# Altium schematic symbol library Lib.SCHLIB: 32 symbols
Pins are listed as number, name and electrical type; pins without a type are passive.

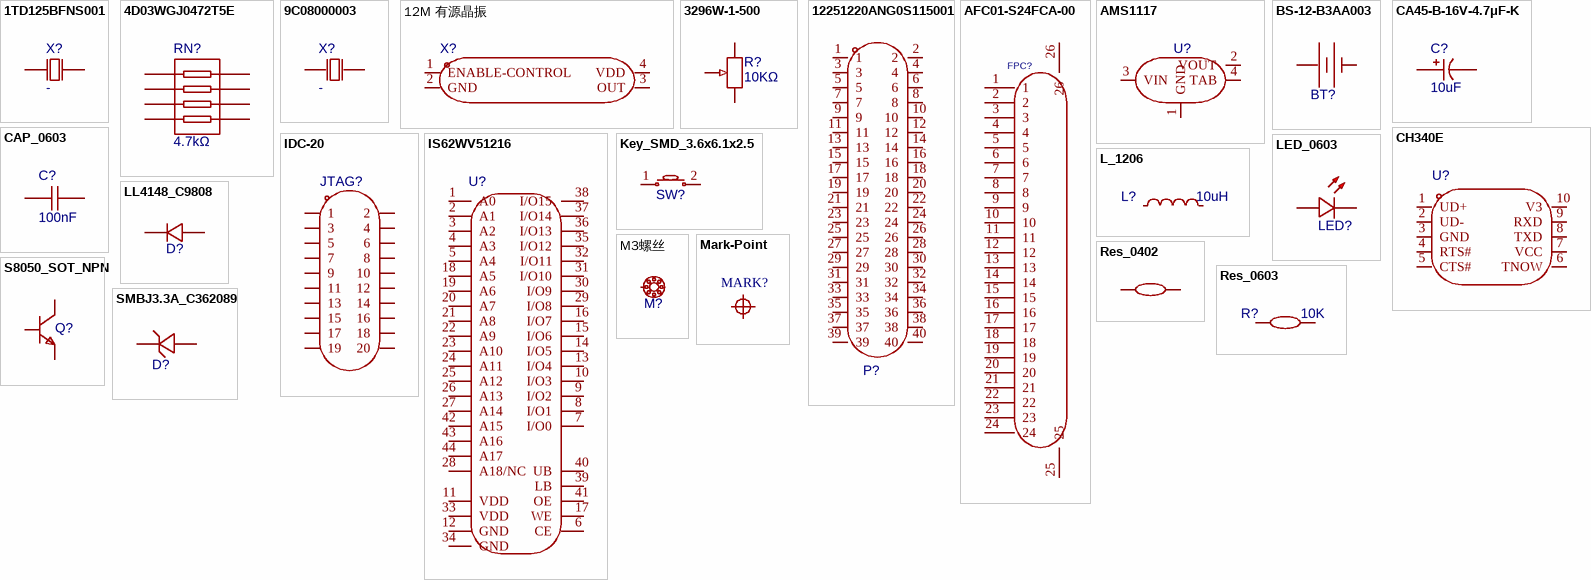
[diagram p0: symbols 1TD125BFNS001 to SMBJ3.3A_C362089]

## 1TD125BFNS001
designator X?  (value not drawn)
频率:-;负载电容:-;; Manufacturer: KDS(大真空); AddInBom: yes; ModelId: bf3d0483db0e46329f34fee1250cddf8; ModelName: OSC-TH_BD2.1-H6.0-P1.0-D0.3; ModelTransform: 291.7317,75.59,0,0,0,0,-141.733,0.003,-137.795; Symbol: 1TD125BFNS001; Device: 1TD125BFNS001; LCSC Part Name: DT-26 32.768K 10PPM 12.5PF 袋装/盒装 袋装/盒装; SupplierPart: C213419; ManufacturerPart: 1TD125BFNS001; Supplier Footprint: DT-26; JLCPCB Part Class: 扩展库; Datasheet: https://atta.szlcsc.com/upload/public/pdf/source/20180530/C213419_C8E01C2F1F46F9420141CAE391D7F4A5.pdf; Supplier: LCSC; ConvertToPcb: yes; FootprintName: OSC-TH_BD2.1-P0.70-D0.3; Crystal Type: -; Load Capacitance: -; Operating Temperature: -; Value: -
footprint OSC-TH_BD2.1-P0.70-D0.3
pins: 1 OSC1, 2 OSC2

## 4D03WGJ0472T5E
designator RN?  value 4.7kΩ  (hidden comment: 4D03WGJ0472T5E)
阻值:4.7kΩ;精度:±5%;单个元件功率:62.5mW;电阻器数:4;温度系数:±200ppm/℃;; Manufacturer: UNI-ROYAL(厚声); AddInBom: yes; ModelId: edf39f9a2dca4b9a94267f442dd4f95a; ModelName: R0603-8P_L3.2-W1.6-H0.6; ModelTransform: 125.984,62.992,0,0,0,0,0,0,0; Tolerance: ±5%; Power(Watts): 62.5mW; Number of Resistors: 4; Symbol: 4D03WGJ0472T5E; Device: 4D03WGJ0472T5E; Supplier: LCSC; Manufacturer Part: 4D03WGJ0472T5E; Supplier Part: C1980; JLCPCB Part Class: 基础库; LCSC Part Name: 4.7kΩ ±5%; Supplier Footprint: 0603x4; Datasheet: https://atta.szlcsc.com/upload/public/pdf/source/20191224/C474318_2527498AE30E813171187CCD28401A71.pdf; ConvertToPcb: yes; FootprintName: RES-ARRAY-SMD_0603-8P-L3.2-W1.6-BL; Number of Pins: 8; Temperature Coefficient: ±200ppm/℃
footprint RES-ARRAY-SMD_0603-8P-L3.2-W1.6-BL
pins: 1, 2, 3, 4, 5, 6, 7, 8

## 9C08000003
designator X?  (value not drawn)
频率:-;负载电容:-;; Manufacturer: TXC(晶技); Symbol: 9C0803LCSC-DDK2S; AddInBom: yes; ModelId: 6f569b91267b44029b8615eb5c810fba; ModelName: HC-49S_L11.4-W1.8-H3.0-LS12.7; ModelTransform: 499.999,188.976,0,0,0,0,0,0,0; Value: -; Device: 9C08000003; LCSC Part Name: HC-49SMD 8M 20pF 20ppm; SupplierPart: C90937; ManufacturerPart: 9C08000003; Supplier Footprint: HC-49S-SMD; JLCPCB Part Class: Extended Part; Datasheet: https://atta.szlcsc.com/upload/public/pdf/source/20161217/1481939207740.pdf; Supplier: LCSC; ConvertToPcb: yes; FootprintName: HC-49S_L11.4-W4.8; Crystal Type: -; Load Capacitance: -; Operating Temperature: -
footprint HC-49S_L11.4-W4.8
pins: 1 OSC1, 2 OSC2

## 12M 有源晶振
designator X?  (value not drawn)
AddInBom: yes; ModelId: ae22b8d143894765bc8100c37cb6356f; ModelName: OSC-SMD_4P-L3.2-W2.5-H1.0; ModelTransform: 125.984,98.425,0,0,0,0,0,0,0; Symbol: 12M 有源晶振; Device: 12M 有源晶振; LCSC Part Name: 12M 有源晶振; SupplierPart: C9900018362; ManufacturerPart: 12M 有源晶振; Supplier Footprint: SMD3225; JLCPCB Part Class: 扩展库; Datasheet: https://atta.szlcsc.comnull; Supplier: LCSC; ConvertToPcb: yes; FootprintName: OSC-SMD_4P-L3.2-W2.5-BL
footprint OSC-SMD_4P-L3.2-W2.5-BL
pins: 1 ENABLE-CONTROL, 2 GND, 3 OUT, 4 VDD

## 3296W-1-500
designator R?  value 10KΩ  (hidden comment: 3296W-1-500)
阻值:50Ω;精度:±10%;; Manufacturer: BOCHEN(博晨); AddInBom: yes; ModelId: b182808559bb43bda9e7de64b64134cb; ModelName: 3296W; ModelTransform: 374.015,188.976,0,180,0,0,0,0,-137.795; Tolerance: ±10%; Symbol: 3296W-1-500; Device: 3296W-1-500; LCSC Part Name: 50Ω ±10%; ManufacturerPart: 3296W-1-500; Supplier Footprint: 插件; JLCPCB Part Class: Extended Part; Datasheet: https://atta.szlcsc.com/upload/public/pdf/source/20171114/C118908_15106326550411117398.pdf; Supplier: LCSC; ConvertToPcb: yes; FootprintName: RES-ADJ-TH_3P-L9.5-W4.9-P2.50-L_3296W
footprint RES-ADJ-TH_3P-L9.5-W4.9-P2.50-L_3296W
pins: 1, 2, 3

## 12251220ANG0S115001
designator P?
间距:2.54mm;总PIN位数:40;排数:2;插针结构:-;行距:2.54mm;安装类型:直插;圆针/方针:-;额定电流:-;额定电压:-;配合针长度:-;塑高:-;触头材质:黄铜;触头镀层:-;颜色:黑色;; Manufacturer: JILN(锦凌); Symbol: 12251220ANG0S115001; AddInBom: yes; ModelId: 2f697d2f705a4509bdac70452e51b3cc; ModelName: HDR-TH_40P-P2.54-M-LI-2X20P; ModelTransform: 2000,196.9,0,0,0,0,0,0,-118.1; Pitch: 2.54mm; Device: 12251220ANG0S115001; LCSC Part Name: 2.54mm; SupplierPart: C429965; ManufacturerPart: 12251220ANG0S115001; Supplier Footprint: 插件,P=2.54mm; JLCPCB Part Class: Extended Part; Datasheet: https://atta.szlcsc.com/upload/public/pdf/source/20190920/C429965_BC46B4ED575BB92CEF1C6420E537C4AD.pdf; Supplier: LCSC; ConvertToPcb: yes; FootprintName: HDR-TH_40P-P2.54-V-M-R2-C20-S2.54; Number of Pins: 40; Number of Rows: 2; Pin Structure: -; Row Spacing: 2.54mm; Mounting Type: 直插; Circluar Pins/Square Pins: -; Current Rating (Max): -; Voltage Rating (Max): -; Length of Mating Pin: -; Insulation Height: -; Contact Material: 黄铜; Contact Plating: -; Color: 黑色
footprint HDR-TH_40P-P2.54-V-M-R2-C20-S2.54
pins: 1, 2, 3, 4, 5, 6, 7, 8, 9, 10, 11, 12, 13, 14, 15, 16, 17, 18, 19, 20, 21, 22, 23, 24, 25, 26, 27, 28, 29, 30, 31, 32, 33, 34, 35, 36, 37, 38, 39, 40

## AFC01-S24FCA-00
designator FPC?  (value not drawn)
间距:0.5mm;触点数量:24P;锁定特性:翻盖式;安装类型:卧贴;触点类型:下接;; Manufacturer: JS(钜硕电子); AddInBom: yes; ModelId: b219624667974e5eae6427e3a0330768; ModelName: FPC-SMD_P0.50-WS-24P; ModelTransform: 637.794,236.22,0,180,0,0,0.001,57.09,0; Pitch: 0.5mm; Number of Contacts: 24P; Locking Feature: 翻盖式; FFC, FCB Thickness: 0.3mm; Symbol: AFC01-S24FCA-00; Device: AFC01-S24FCA-00; Supplier: LCSC; Supplier Part: C262669; Manufacturer Part: AFC01-S24FCA-00; JLCPCB Part Class: 扩展库; LCSC Part Name: 0.5mm P数:24P 翻盖式 下接; Supplier Footprint: SMD,P=0.5mm; Datasheet: https://atta.szlcsc.com/upload/public/pdf/source/20190816/C413942_2A72D1AC756EAE17EEDF756A339D4500.pdf; ConvertToPcb: yes; FootprintName: FPC-SMD_P0.50-24P_FGS-XJ-H2.0; Mounting Type: 卧贴; Contact Type: 下接; Height Above Board: 2mm
footprint FPC-SMD_P0.50-24P_FGS-XJ-H2.0
pins: 1, 2, 3, 4, 5, 6, 7, 8, 9, 10, 11, 12, 13, 14, 15, 16, 17, 18, 19, 20, 21, 22, 23, 24, 25, 26

## AMS1117
designator U?  (value not drawn)
AddInBom: yes; ModelId: 925194bf9823436183a3e0b978a8d076聨0819f05c4eef4c71ace90d822a990e87; ModelName: SOT-223-4P_L6.5-W3.5-H1.6-LS7.0-P2.30; ModelTransform: 279.84,255.85,68.86,90,0,0,0,0,0; Symbol: AMS1117; Device: AMS1117; ConvertToPcb: yes; FootprintName: SOT_223; Supplier Footprint: SOT_223
footprint SOT_223
pins: 1 GND, 2 VOUT, 3 VIN, 4 TAB

## BS-12-B3AA003
designator BT?  (value not drawn)
连接器类型:电池底座;适用电池规格:CR1220;工作温度范围:-25℃~+85℃;; Manufacturer: MYOUNG(美阳); AddInBom: yes; ModelId: 54ee14fdfc2a4013838c0af10e1f0cfd; ModelName: BAT-SMD_BS-12-B3AA011; ModelTransform: 732.282,586.427,0,0,0,0,-13.041,-1.024,-27.559; Connector Type: 电池底座; Battery Type: CR1220; Symbol: BS-12-B3AA003; Device: BS-12-B3AA003; Supplier: LCSC; Supplier Part: C964723; Manufacturer Part: BS-12-B3AA003; JLCPCB Part Class: 扩展库; LCSC Part Name: 电池底座 适用电池:CR1220; Supplier Footprint: SMD; Datasheet: https://atta.szlcsc.com/upload/public/pdf/source/20201218/C964723_733B638E287393F86295A2A4DAE43C75.pdf; ConvertToPcb: yes; FootprintName: BAT-SMD_BS-12-B3AA011; Operating Temperature Range: -25℃~+85℃
footprint BAT-SMD_BS-12-B3AA011
pins: 1 +, 2 -

## CA45-B-16V-4.7μF-K
designator C?  value 10uF  (hidden comment: CA45-B-16V-4.7μF-K)
容值:4.7uF;精度:±10%;额定电压:16V;等效串联电阻:3.5Ω@100kHz;; Manufacturer: TORCH(火炬); AddInBom: yes; ModelId: 0dfcda272f9b43668c6086d3a08712ba; ModelName: CASE-B_L3.5-W2.8-H1.9; ModelTransform: 145.669,110.236,0,180,0,0,0,0,0; Tolerance: ±10%; Rated Voltage: 16V; Symbol: CA45-B-16V-4.7μF-K; Device: CA45-B-16V-4.7μF-K; LCSC Part Name: 4.7uF ±10% 16V; ManufacturerPart: CA45-B-16V-4.7μF-K; Supplier Footprint: 1210; JLCPCB Part Class: Extended Part; Datasheet: https://atta.szlcsc.com/upload/public/pdf/source/20191009/C435293_78A410F3D73489DBEAC46056C4262F7A.pdf; Supplier: LCSC; ConvertToPcb: yes; FootprintName: CAP-SMD_L3.5-W2.8; Equivalent Series Resistance(ESR): 3.5Ω@100kHz; Operating Temperature: -55℃~+125℃
footprint CAP-SMD_L3.5-W2.8
pins: 1, 2

## CAP_0603
designator C?  value 100nF  (hidden comment: CAP_0603)
ConvertToPcb: yes; SymbolName: CapAcitance; ModelId: ac125912035d415993ca9572d50418b1; ModelName: C0603_L1.6-W0.8-H0.8; ModelTransform: 62.992,31.496,0,0,0,0,0,0,0; Device: CAP_0603; AddInBom: yes; Supplier Footprint: 0603; FootprintName: C0603
footprint C0603
pins: 1, 2

## CH340E
designator U?  (value not drawn)
应用功能:收发器;接口协议:USB 2.0;数据速率:2Mbps;; Manufacturer: WCH(南京沁恒); AddInBom: yes; ModelId: b42a31f9e1fa4643bc7ea573b9bba7ed; ModelName: MSOP-10_L3.0-W3.0-H1.1-LS5.0-P0.50; ModelTransform: 118.11,196.85,0,0,0,0,0,0,0; Applications Function: 收发器; Protocol: USB 2.0; Data Rate: 2Mbps; Supply Voltage: 3.3V；5V; Symbol: CH340E; Device: CH340E; Supplier: LCSC; Manufacturer Part: CH340E; Supplier Part: C99652; JLCPCB Part Class: 扩展库; LCSC Part Name: USB转串口芯片 CH340; Supplier Footprint: MSOP-10; Datasheet: https://atta.szlcsc.com/upload/public/pdf/source/20230530/6E401E9554E9F5311886CC8B3F89B62E.pdf; ConvertToPcb: yes; FootprintName: MSOP-10_L3.0-W3.0-P0.50-LS5.0-BL
footprint MSOP-10_L3.0-W3.0-P0.50-LS5.0-BL
pins: 1 UD+, 2 UD-, 3 GND, 4 RTS#, 5 CTS#, 6 TNOW, 7 VCC, 8 TXD, 9 RXD, 10 V3

## IDC-20
designator JTAG?  (value not drawn)
AddInBom: yes; ModelId: 919cb9b113224b379d0081fecd8b0ef1; ModelName: IDC-TH_20P-P2.54-V-R2-C10-S2.54; ModelTransform: 1299.21,358.267,0,0,0,0,0,5.906,-118.11; Device: IDC-20; ConvertToPcb: yes; SymbolName: IDC-20; LCSC Part Name: IDC-20; SupplierPart: C9900015890; ManufacturerPart: IDC-20; Supplier Footprint: JTAG; JLCPCB Part Class: ExtendedPart; Datasheet: https://atta.szlcsc.comnull; Supplier: LCSC; FootprintName: IDC-TH_20P-P2.54-V-R2-C10-S2.54
footprint IDC-TH_20P-P2.54-V-R2-C10-S2.54
pins: 1, 2, 3, 4, 5, 6, 7, 8, 9, 10, 11, 12, 13, 14, 15, 16, 17, 18, 19, 20

## IS62WV51216
designator U?  (value not drawn)
Pin Type: IN; AddInBom: yes; OriginFootprint: TSOP-44; Symbol: IS62WV51216; Device: IS62WV51216; ConvertToPcb: yes; FootprintName: TSOP-44
footprint TSOP-44
pins: 1 A0, 2 A1, 3 A2, 4 A3, 5 A4, 6 CE, 7 I/O0, 8 I/O1, 9 I/O2, 10 I/O3, 11 VDD, 12 GND, 13 I/O4, 14 I/O5, 15 I/O6, 16 I/O7, 17 WE, 18 A5, 19 A6, 20 A7, 21 A8, 22 A9, 23 A10, 24 A11, 25 A12, 26 A13, 27 A14, 28 A18/NC, 29 I/O8, 30 I/O9, 31 I/O10, 32 I/O11, 33 VDD, 34 GND, 35 I/O12, 36 I/O13, 37 I/O14, 38 I/O15, 39 LB, 40 UB, 41 OE, 42 A15, 43 A16, 44 A17

## Key_SMD_3.6x6.1x2.5
designator SW?
Device: Key_SMD_3.6x6.1x2.5; SymbolName: 轻触按键x2; AddInBom: yes; ModelId: 90d18ad19a7e424ebd3215e1b5dcb80c聨0819f05c4eef4c71ace90d822a990e87; ModelName: KEY-SMD_2P-L6.0-W3.6-H2.5-LS8.0 COPY; ModelTransform: 311.02,141.73,102.36,0,0,0,0,0,0; ConvertToPcb: yes; FootprintName: Key_SMD_3.6x6.1x2.5; Supplier Footprint: SMD
footprint Key_SMD_3.6x6.1x2.5
pins: 1, 2

## L_1206
designator L?  value 10uH  (hidden comment: L_1206)
Symbol: CMI321609VR27KT; AddInBom: yes; ModelId: 85bdab7b3d4c4074b81d208eb5e865b3; ModelName: L1206_L3.2-W1.6-H1.1; ModelTransform: 125.984,62.835,0,0,0,0,0,0,0; Device: L_1206; Supplier Footprint: L1206; ConvertToPcb: yes; FootprintName: L1206
footprint L1206
pins: 1, 2

## LED_0603
designator LED?, comment LED_0603-R  (value not drawn)
Symbol: LED_R; Convert to PCB: yes; 3D Model: dd8257b0d61a4cd7b68939a056e08095; 3D Model Transform: 58.72,29.4,22.03,0,0,0,0,0,0; ModelName: LED-0603_R; Device: LED_0603-R; Add into BOM: yes; Supplier Footprint: 0603; FootprintName: LED_0603
footprint LED_0603
pins: 1 C, 2 A

## LL4148_C9808
designator D?  (value not drawn)
二极管配置:-;功率:500mW;直流反向耐压(Vr):75V;平均整流电流(Io):200mA;正向压降(Vf):1V@10mA;反向电流(Ir):5uA@75V;反向恢复时间(trr):4ns;工作温度:+175℃@(Tj);; Manufacturer: ST(先科); Symbol: LL4148; AddInBom: yes; ModelId: 4a6f2309ca4c4217857da1816cccdf69; ModelName: LL-34_L3.5-W1.5; ModelTransform: 133.93674,59.031,0,0,0,0,0,0,0; Power Dissipation: 500mW; Reverse Voltage (Vr): 75V; Average Rectified Current (Io): 200mA; Reverse Recovery Time (trr): 4ns; Device: LL4148_C9808; LCSC Part Name: 75V 200mA 4ns; SupplierPart: C9808; ManufacturerPart: LL4148; Supplier Footprint: LL-34; JLCPCB Part Class: Basic Part; Datasheet: https://atta.szlcsc.com/upload/public/pdf/source/20121108/1457706554347.pdf; Supplier: LCSC; ConvertToPcb: yes; FootprintName: LL-34_L3.5-W1.5-RD; Diode Configuration: -; Forward Voltage (Vf@If): 1V@10mA; Reverse Leakage Current: 5uA@75V; Operating Temperature: +175℃@(Tj)
footprint LL-34_L3.5-W1.5-RD
pins: 1 K, 2 A

## M3螺丝
designator M?  (value not drawn)
AddInBom: yes; Pin Type: IN; Device: M3螺丝; ConvertToPcb: yes; SymbolName: M3螺丝; FootprintName: 螺钉孔
footprint Screw
pins: 1

## Mark-Point
designator MARK?
Symbol: Mark-Point; Add into BOM: no; Convert to PCB: yes; Device: Mark-Point
footprint Mark-Point
pins: 1

## Res_0402
designator R?  (value not drawn)
Symbol: 电阻; Value: 10K; ConvertToPcb: yes; ModelId: 671aefced39d4c318694bba8bd8efd39; ModelName: R0402_L1.0-W0.5-H0.5; ModelTransform: 39.37,19.685,0,0,0,0,0,0.0005,0; Device: Res_0402; AddInBom: yes; Supplier Footprint: 0402; FootprintName: R0402
footprint R0402
pins: 1, 2

## Res_0603
designator R?  value 10K  (hidden comment: Res_0603)
Symbol: 电阻; ConvertToPcb: yes; ModelId: fc143cca1e79419f9cd78b61e9279f08; ModelName: R0603; ModelTransform: 31.8897,63.7794,0,90,0,0,0,0,0; Device: Res_0603; AddInBom: yes; Supplier Footprint: 0603; FootprintName: R0603
footprint R0603
pins: 1, 2

## S8050_SOT_NPN
designator Q?  (value not drawn)
ConvertToPcb: yes; SymbolName: NPN; ModelId: c62791f0466c4ae2a892c056b845b0ca; ModelName: SOT-23-3P_L2.9-W1.3-H1.0-LS2.4-P0.95; ModelTransform: 98.6,114.12,41.29,180,0,0,0,0,-3; Device: S8050_SOT_NPN; AddInBom: yes; Supplier Footprint: SOT-23; FootprintName: S8050_SOT-23
footprint S8050_SOT-23
pins: 1, 2, 3

## SMBJ3.3A_C362089
designator D?  (value not drawn)
反向截止电压(Vrwm):3.3V;击穿电压:4.1V;最大钳位电压:7.3V;; Manufacturer: JKSEMI(金开盛); AddInBom: yes; ModelId: 5e8926c661484ff2a35b83e5ae62aeb9; ModelName: SMB_L4.6-W3.6-LS5.3-RD; ModelTransform: 212.598,141.732,0,0,0,0,0,0,0; Unidirectional Channels: 1; Bidirectional Channels: 0; Reverse Stand-Off Voltage (Vrwm): 3.3V; Breakdown Voltage: 4.1V; Maximum Clamping Voltage: 7.3V; Peak Pulse Power Dissipation (Ppp)@10/1000us: 600W; Symbol: SMBJ3.3A_C362089; Device: SMBJ3.3A_C362089; LCSC Part Name: 单向TVS 3.3V截止 600W峰值脉冲功率; SupplierPart: C362089; ManufacturerPart: SMBJ3.3A; Supplier Footprint: SMB(DO-214AA); JLCPCB Part Class: Extended Part; Datasheet: https://atta.szlcsc.com/upload/public/pdf/source/20200731/C362089_3B984BF84356FE4A5051ADB3F5B1E766.pdf; Supplier: LCSC; ConvertToPcb: yes; FootprintName: SMB_L4.6-W3.6-LS5.3-RD
footprint SMB_L4.6-W3.6-LS5.3-RD
pins: 1, 2

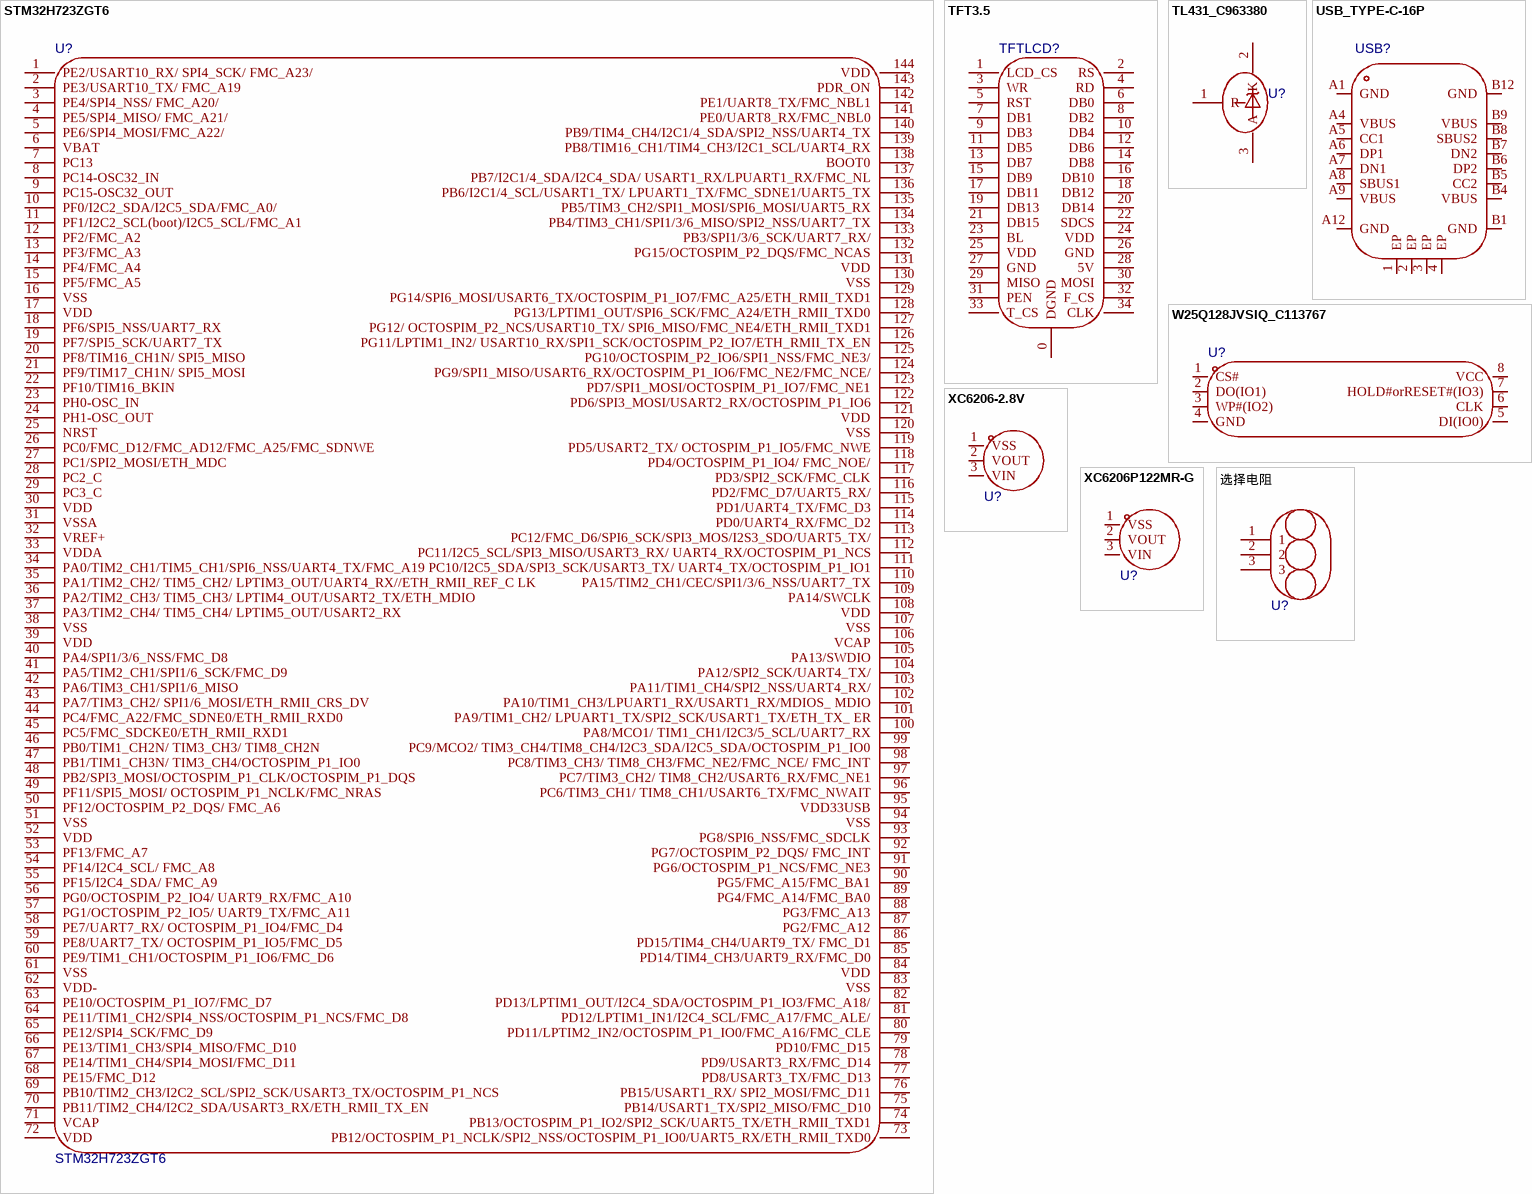
[diagram p1: symbols STM32H723ZGT6 to 选择电阻]

## STM32H723ZGT6
designator U?
ARM-M系列 CPU最大主频：550MHz 程序存储容量：1MB 程序存储器类型：FLASH RAM总容量：564KB GPIO端口数量：80; AddInBom: yes; ModelId: 0b7bdfea88404874aa6fca7709e1f022; ModelName: LQFP-144_20.0X20.0X0.5P; ModelTransform: 866.14,866.14,0,0,0,0,0,0,0; Device: STM32H723ZGT6; ConvertToPcb: yes; SymbolName: STM32H723ZGT6; FootprintName: LQFP-144_20.0X20.0X0.5P
footprint LQFP-144_20.0X20.0X0.5P
pins: 1 PE2/USART10_RX/ SPI4_SCK/ FMC_A23/, 2 PE3/USART10_TX/ FMC_A19, 3 PE4/SPI4_NSS/ FMC_A20/, 4 PE5/SPI4_MISO/ FMC_A21/, 5 PE6/SPI4_MOSI/FMC_A22/, 6 VBAT, 7 PC13, 8 PC14-OSC32_IN, 9 PC15-OSC32_OUT, 10 PF0/I2C2_SDA/I2C5_SDA/FMC_A0/, 11 PF1/I2C2_SCL(boot)/I2C5_SCL/FMC_A1, 12 PF2/FMC_A2, 13 PF3/FMC_A3, 14 PF4/FMC_A4, 15 PF5/FMC_A5, 16 VSS, 17 VDD, 18 PF6/SPI5_NSS/UART7_RX, 19 PF7/SPI5_SCK/UART7_TX, 20 PF8/TIM16_CH1N/ SPI5_MISO, 21 PF9/TIM17_CH1N/ SPI5_MOSI, 22 PF10/TIM16_BKIN, 23 PH0-OSC_IN, 24 PH1-OSC_OUT, 25 NRST, 26 PC0/FMC_D12/FMC_AD12/FMC_A25/FMC_SDNWE, 27 PC1/SPI2_MOSI/ETH_MDC, 28 PC2_C, 29 PC3_C, 30 VDD, 31 VSSA, 32 VREF+, 33 VDDA, 34 PA0/TIM2_CH1/TIM5_CH1/SPI6_NSS/UART4_TX/FMC_A19, 35 PA1/TIM2_CH2/ TIM5_CH2/ LPTIM3_OUT/UART4_RX//ETH_RMII_REF_C LK, 36 PA2/TIM2_CH3/ TIM5_CH3/ LPTIM4_OUT/USART2_TX/ETH_MDIO, 37 PA3/TIM2_CH4/ TIM5_CH4/ LPTIM5_OUT/USART2_RX, 38 VSS, 39 VDD, 40 PA4/SPI1/3/6_NSS/FMC_D8, 41 PA5/TIM2_CH1/SPI1/6_SCK/FMC_D9, 42 PA6/TIM3_CH1/SPI1/6_MISO, 43 PA7/TIM3_CH2/ SPI1/6_MOSI/ETH_RMII_CRS_DV, 44 PC4/FMC_A22/FMC_SDNE0/ETH_RMII_RXD0, 45 PC5/FMC_SDCKE0/ETH_RMII_RXD1, 46 PB0/TIM1_CH2N/ TIM3_CH3/ TIM8_CH2N, 47 PB1/TIM1_CH3N/ TIM3_CH4/OCTOSPIM_P1_IO0, 48 PB2/SPI3_MOSI/OCTOSPIM_P1_CLK/OCTOSPIM_P1_DQS, 49 PF11/SPI5_MOSI/ OCTOSPIM_P1_NCLK/FMC_NRAS, 50 PF12/OCTOSPIM_P2_DQS/ FMC_A6, 51 VSS, 52 VDD, 53 PF13/FMC_A7, 54 PF14/I2C4_SCL/ FMC_A8, 55 PF15/I2C4_SDA/ FMC_A9, 56 PG0/OCTOSPIM_P2_IO4/ UART9_RX/FMC_A10, 57 PG1/OCTOSPIM_P2_IO5/ UART9_TX/FMC_A11, 58 PE7/UART7_RX/ OCTOSPIM_P1_IO4/FMC_D4, 59 PE8/UART7_TX/ OCTOSPIM_P1_IO5/FMC_D5, 60 PE9/TIM1_CH1/OCTOSPIM_P1_IO6/FMC_D6, 61 VSS, 62 VDD-, 63 PE10/OCTOSPIM_P1_IO7/FMC_D7, 64 PE11/TIM1_CH2/SPI4_NSS/OCTOSPIM_P1_NCS/FMC_D8, 65 PE12/SPI4_SCK/FMC_D9, 66 PE13/TIM1_CH3/SPI4_MISO/FMC_D10, 67 PE14/TIM1_CH4/SPI4_MOSI/FMC_D11, 68 PE15/FMC_D12, 69 PB10/TIM2_CH3/I2C2_SCL/SPI2_SCK/USART3_TX/OCTOSPIM_P1_NCS, 70 PB11/TIM2_CH4/I2C2_SDA/USART3_RX/ETH_RMII_TX_EN, 71 VCAP, 72 VDD, 73 PB12/OCTOSPIM_P1_NCLK/SPI2_NSS/OCTOSPIM_P1_IO0/UART5_RX/ETH_RMII_TXD0, 74 PB13/OCTOSPIM_P1_IO2/SPI2_SCK/UART5_TX/ETH_RMII_TXD1, 75 PB14/USART1_TX/SPI2_MISO/FMC_D10, 76 PB15/USART1_RX/ SPI2_MOSI/FMC_D11, 77 PD8/USART3_TX/FMC_D13, 78 PD9/USART3_RX/FMC_D14, 79 PD10/FMC_D15, 80 PD11/LPTIM2_IN2/OCTOSPIM_P1_IO0/FMC_A16/FMC_CLE, 81 PD12/LPTIM1_IN1/I2C4_SCL/FMC_A17/FMC_ALE/, 82 PD13/LPTIM1_OUT/I2C4_SDA/OCTOSPIM_P1_IO3/FMC_A18/, 83 VSS, 84 VDD, 85 PD14/TIM4_CH3/UART9_RX/FMC_D0, 86 PD15/TIM4_CH4/UART9_TX/ FMC_D1, 87 PG2/FMC_A12, 88 PG3/FMC_A13, 89 PG4/FMC_A14/FMC_BA0, 90 PG5/FMC_A15/FMC_BA1, 91 PG6/OCTOSPIM_P1_NCS/FMC_NE3, 92 PG7/OCTOSPIM_P2_DQS/ FMC_INT, 93 PG8/SPI6_NSS/FMC_SDCLK, 94 VSS, 95 VDD33USB, 96 PC6/TIM3_CH1/ TIM8_CH1/USART6_TX/FMC_NWAIT, 97 PC7/TIM3_CH2/ TIM8_CH2/USART6_RX/FMC_NE1, 98 PC8/TIM3_CH3/ TIM8_CH3/FMC_NE2/FMC_NCE/ FMC_INT, 99 PC9/MCO2/ TIM3_CH4/TIM8_CH4/I2C3_SDA/I2C5_SDA/OCTOSPIM_P1_IO0, 100 PA8/MCO1/ TIM1_CH1/I2C3/5_SCL/UART7_RX, 101 PA9/TIM1_CH2/ LPUART1_TX/SPI2_SCK/USART1_TX/ETH_TX_ ER, 102 PA10/TIM1_CH3/LPUART1_RX/USART1_RX/MDIOS_ MDIO, 103 PA11/TIM1_CH4/SPI2_NSS/UART4_RX/, 104 PA12/SPI2_SCK/UART4_TX/, 105 PA13/SWDIO, 106 VCAP, 107 VSS, 108 VDD, 109 PA14/SWCLK, 110 PA15/TIM2_CH1/CEC/SPI1/3/6_NSS/UART7_TX, 111 PC10/I2C5_SDA/SPI3_SCK/USART3_TX/ UART4_TX/OCTOSPIM_P1_IO1, 112 PC11/I2C5_SCL/SPI3_MISO/USART3_RX/ UART4_RX/OCTOSPIM_P1_NCS, 113 PC12/FMC_D6/SPI6_SCK/SPI3_MOS/I2S3_SDO/UART5_TX/, 114 PD0/UART4_RX/FMC_D2, 115 PD1/UART4_TX/FMC_D3, 116 PD2/FMC_D7/UART5_RX/, 117 PD3/SPI2_SCK/FMC_CLK, 118 PD4/OCTOSPIM_P1_IO4/ FMC_NOE/, 119 PD5/USART2_TX/ OCTOSPIM_P1_IO5/FMC_NWE, 120 VSS, 121 VDD, 122 PD6/SPI3_MOSI/USART2_RX/OCTOSPIM_P1_IO6, 123 PD7/SPI1_MOSI/OCTOSPIM_P1_IO7/FMC_NE1, 124 PG9/SPI1_MISO/USART6_RX/OCTOSPIM_P1_IO6/FMC_NE2/FMC_NCE/, 125 PG10/OCTOSPIM_P2_IO6/SPI1_NSS/FMC_NE3/, 126 PG11/LPTIM1_IN2/ USART10_RX/SPI1_SCK/OCTOSPIM_P2_IO7/ETH_RMII_TX_EN, 127 PG12/ OCTOSPIM_P2_NCS/USART10_TX/ SPI6_MISO/FMC_NE4/ETH_RMII_TXD1, 128 PG13/LPTIM1_OUT/SPI6_SCK/FMC_A24/ETH_RMII_TXD0, 129 PG14/SPI6_MOSI/USART6_TX/OCTOSPIM_P1_IO7/FMC_A25/ETH_RMII_TXD1, 130 VSS, 131 VDD, 132 PG15/OCTOSPIM_P2_DQS/FMC_NCAS, 133 PB3/SPI1/3/6_SCK/UART7_RX/, 134 PB4/TIM3_CH1/SPI1/3/6_MISO/SPI2_NSS/UART7_TX, 135 PB5/TIM3_CH2/SPI1_MOSI/SPI6_MOSI/UART5_RX, 136 PB6/I2C1/4_SCL/USART1_TX/ LPUART1_TX/FMC_SDNE1/UART5_TX, 137 PB7/I2C1/4_SDA/I2C4_SDA/ USART1_RX/LPUART1_RX/FMC_NL, 138 BOOT0, 139 PB8/TIM16_CH1/TIM4_CH3/I2C1_SCL/UART4_RX, 140 PB9/TIM4_CH4/I2C1/4_SDA/SPI2_NSS/UART4_TX, 141 PE0/UART8_RX/FMC_NBL0, 142 PE1/UART8_TX/FMC_NBL1, 143 PDR_ON, 144 VDD

## TFT3.5
designator TFTLCD?  (value not drawn)
Device: TFT3.5; SymbolName: TFT3.5; FootprintName: TFT3.5
footprint TFT3.5
pins: 0 DGND, 1 LCD_CS, 2 RS, 3 WR, 4 RD, 5 RST, 6 DB0, 7 DB1, 8 DB2, 9 DB3, 10 DB4, 11 DB5, 12 DB6, 13 DB7, 14 DB8, 15 DB9, 16 DB10, 17 DB11, 18 DB12, 19 DB13, 20 DB14, 21 DB15, 22 SDCS, 23 BL, 24 VDD, 25 VDD, 26 GND, 27 GND, 28 5V, 29 MISO, 30 MOSI, 31 PEN, 32 F_CS, 33 T_CS, 34 CLK

## TL431_C963380
designator U?  (value not drawn)
输出类型:可调;输入电压:37V;输出电压:2.5V~36V;输出电流:-;精度:-;; Manufacturer: JSMSEMI(杰盛微); Manufacturer Part: TL431; AddInBom: yes; ModelId: 7c85ad3c8d5447da8c6dcc9f35565012; ModelName: SOT-23-3_L2.9-W1.4-P1.90-LS2.6-BR; ModelTransform: 114.173,102.362,0,90,0,0,0,0,0; Reference Type: 并联; Output Type: 可调; Input Voltage: 37V; Temperature Coefficient: 50ppm/℃; Minimum Cathode Current for Regulation: 1mA; Dynamic Impedance: 150mΩ; Symbol: TL431_C963380; Device: TL431_C963380; Supplier: LCSC; Supplier Part: C963380; JLCPCB Part Class: 扩展库; LCSC Part Name: TL431; Supplier Footprint: SOT-23(TO-236); Datasheet: https://atta.szlcsc.com/upload/public/pdf/source/20230807/EF0970E00E6F0FAFB24359B08B49660E.pdf; ConvertToPcb: yes; FootprintName: SOT-23-3_L2.9-W1.4-P1.90-LS2.6-BR; Output Voltage: 2.5V~36V; Output Current: -; Tolerance: -; Supply Current: -; Noise - 1/10Hz to 10Hz: -; Noise - 10Hz to 10kHz: -; Operating Temperature: -25℃~+85℃@(Topr)
footprint SOT-23-3_L2.9-W1.4-P1.90-LS2.6-BR
pins: 1 R, 2 K, 3 A

## USB_TYPE-C-16P
designator USB?  (value not drawn)
AddInBom: yes; ModelId: 35058e297fd54ee2afd2de30c3ce7155; ModelName: USB-C_SMD-TYPE-C-31-M-12; ModelTransform: 360,318.121,0,180,0,0,0,-41.02,-39.37; Device: USB_TYPE-C-16P; Supplier Footprint: SMD; ConvertToPcb: yes; SymbolName: USB_TYPE-C-16P; FootprintName: USB_TYPE-C-16P
footprint USB_TYPE-C-16P
pins: 1 EP, 2 EP, 3 EP, 4 EP, A1 GND, A4 VBUS, A5 CC1, A6 DP1, A7 DN1, A8 SBUS1, A9 VBUS, A12 GND, B1 GND, B4 VBUS, B5 CC2, B6 DP2, B7 DN2, B8 SBUS2, B9 VBUS, B12 GND

## W25Q128JVSIQ_C113767
designator U?  (value not drawn)
Manufacturer: WINBOND(华邦); AddInBom: yes; ModelId: f83d990ad74f400caf5ac920b7771508; ModelName: SOIC-8_L5.3-W5.3-H1.9-LS7.9-P1.27; ModelTransform: 208.661,311.25654,0,0,0,0,-0.0005,0.0005,0; Symbol: W25Q128JVSIQ; Device: W25Q128JVSIQ_C113767; LCSC Part Name: W25Q128JVSIQ; SupplierPart: C113767; ManufacturerPart: W25Q128JVSIQ; Supplier Footprint: SOIC-8-208mil; JLCPCB Part Class: 扩展库; Datasheet: https://atta.szlcsc.com/upload/public/pdf/source/20180329/C113767_097B64D788F6E3FFB2E9CB46CB6C1427.pdf; Supplier: LCSC; ConvertToPcb: yes; FootprintName: SOIC-8_L5.3-W5.3-P1.27-LS8.0-BL
footprint SOIC-8_L5.3-W5.3-P1.27-LS8.0-BL
pins: 1 CS#, 2 DO(IO1), 3 WP#(IO2), 4 GND, 5 DI(IO0), 6 CLK, 7 HOLD#orRESET#(IO3), 8 VCC

## XC6206-2.8V
designator U?  (value not drawn)
输出类型:固定;输出极性:正;最大输入电压:6V;输出电压:2.8V;输出电流:250mA;; Manufacturer: YONGYUTAI(永裕泰); AddInBom: yes; ModelId: 89cb27a44ab2466697082bb9fd73a7d0; ModelName: SOT-23-3L_L2.9-W1.6-H1.1-LS2.8-P0.95; ModelTransform: 110.236,114.173,0,180,0,0,-0.005,0.0005,0; Output Type: 固定; Output Polarity: 正; Number of Outputs: 1; Maximum Input Voltage: 6V; Output Voltage: 2.8V; Output Current: 250mA; Symbol: XC6206-2.8V; Device: XC6206-2.8V; LCSC Part Name: XC6206-2.8V; SupplierPart: C2892669; ManufacturerPart: XC6206-2.8V; Supplier Footprint: SOT-23-3L; JLCPCB Part Class: 扩展库; Datasheet: https://atta.szlcsc.com/upload/public/pdf/source/20210901/DE3C77F0CE73FFE8F7C655BE9B94CB06.pdf; Supplier: LCSC; ConvertToPcb: yes; FootprintName: SOT-23-3_L2.9-W1.6-P1.90-LS2.8-BR; Operating Temperature: -40℃~+85℃@(Tj)
footprint SOT-23-3_L2.9-W1.6-P1.90-LS2.8-BR
pins: 1 VSS, 2 VOUT, 3 VIN

## XC6206P122MR-G
designator U?  (value not drawn)
输出类型:固定;输出极性:正;最大输入电压:7V;输出电压:1.2V~1.2V;输出电流:60mA;电源纹波抑制比(PSRR):-;; Manufacturer: TOREX(特瑞仕); AddInBom: yes; ModelId: 89cb27a44ab2466697082bb9fd73a7d0; ModelName: SOT-23-3L_L2.9-W1.6-H1.1-LS2.8-P0.95; ModelTransform: 110.236,114.173,0,180,0,0,-0.005,0.0005,0; Output Type: 固定; Output Polarity: 正; Number of Outputs: 1; Maximum Input Voltage: 7V; Dropout Voltage: 960mV@(60mA); Output Current: 60mA; Symbol: XC6206P122MR-G; Device: XC6206P122MR-G; LCSC Part Name: XC6206P122MR-G; SupplierPart: C424699; ManufacturerPart: XC6206P122MR-G; Supplier Footprint: SOT-23; JLCPCB Part Class: 扩展库; Datasheet: https://atta.szlcsc.com/upload/public/pdf/source/20190903/C424699_59FCC169C113A8B3272904318A708AFC.pdf; Supplier: LCSC; ConvertToPcb: yes; FootprintName: SOT-23-3_L2.9-W1.6-P1.90-LS2.8-BR; Output Voltage: 1.2V~1.2V; Power Supply Rejection Ratio (PSRR): -
footprint SOT-23-3_L2.9-W1.6-P1.90-LS2.8-BR
pins: 1 VSS, 2 VOUT, 3 VIN

## 选择电阻
designator U?
Symbol: 0603选择电阻; Device: 选择电阻; AddInBom: yes; ConvertToPcb: yes; FootprintName: 0603选择电阻
footprint 0603选择电阻
pins: 1, 2, 3